# Altium footprint library OneFader.PcbLib: 11 footprints
Each footprint in its own frame and in the unit in brackets; x right, y up, seen from the top. Pads: shape width x height; smd on the part's side, far side on the other; paste and mask are expansions set on the pad; w line width, h text height; cw(c..) or ccw(c..) is an arc to the next point about the centre after c.
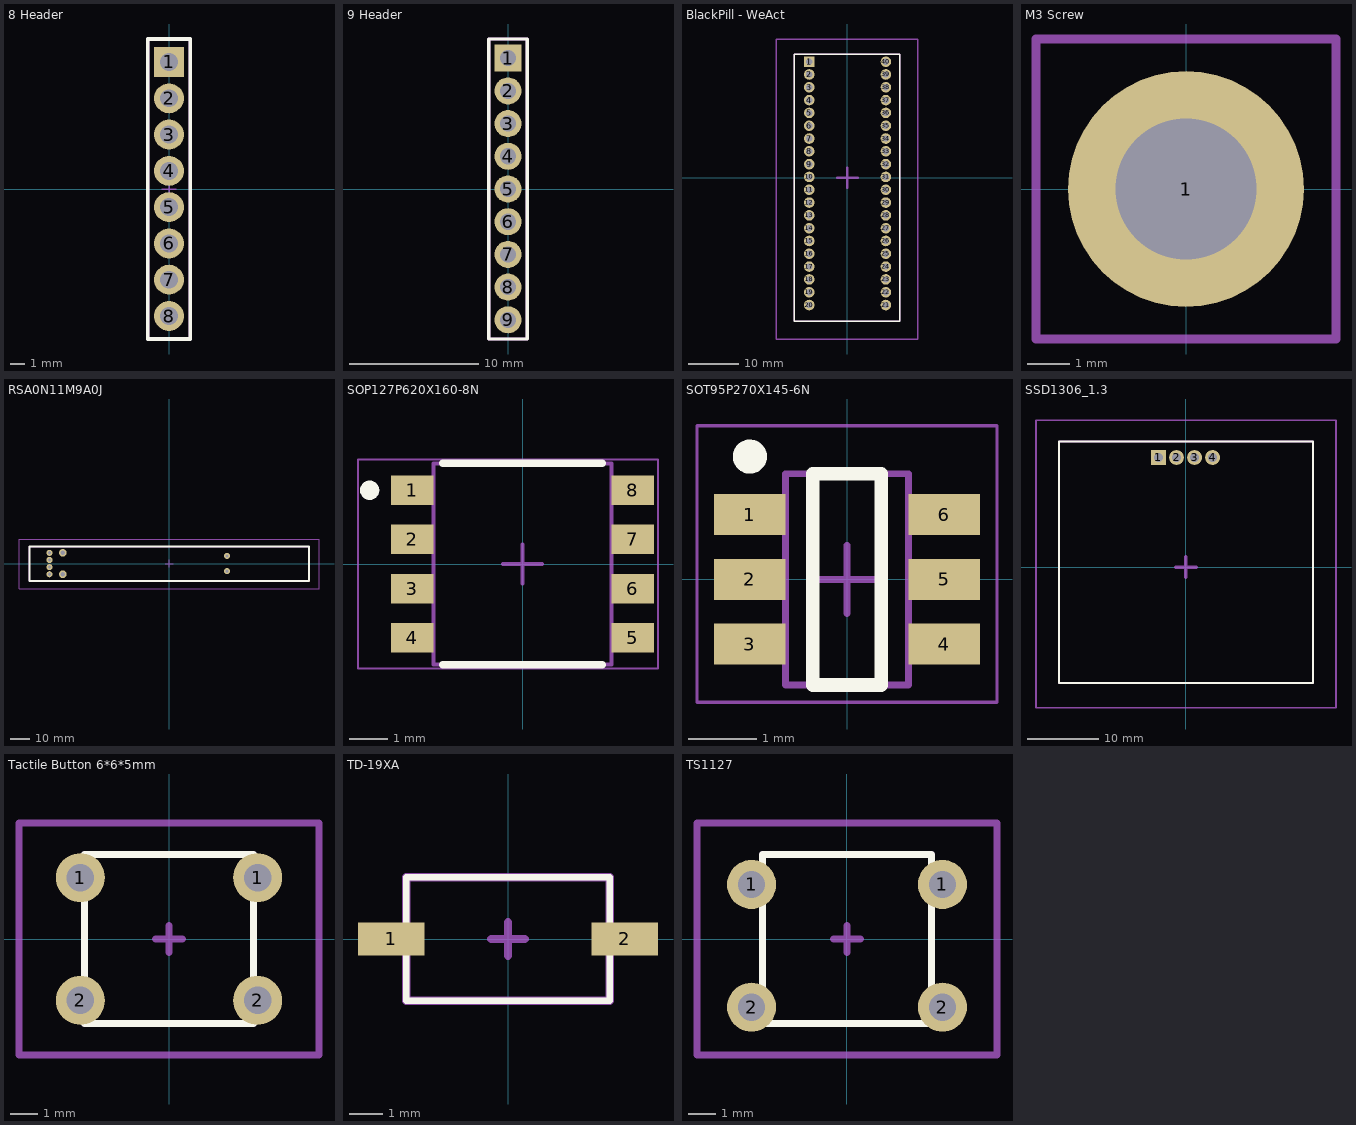
[diagram p0: the footprints below, top view; thin cyan lines are the x and y axes]

## 8 Header [mm]
pads (8):
  rect 2.1x2.1 hole 1.25: 1(0,8.89)
  round 2.1 hole 1.25: 2(0,6.35) 3(0,3.81) 4(0,1.27) 5(0,-1.27) 6(0,-3.81) 7(0,-6.35) 8(0,-8.89)
Top Overlay:
  lines w0.254: -1.5,-10.5 1.5,-10.5 1.5,10.5 -1.5,10.5 -1.5,-10.5
Designator Top:
  text ".Designator" at -0.383,-3.499 h0.7
Assembly Top:
  lines w0.254: -1.5,-10.5 1.5,-10.5 1.5,10.5 -1.5,10.5 -1.5,-10.5
Courtyard Top:
  lines w0.254: -1.5,-10.5 1.5,-10.5 1.5,10.5 -1.5,10.5 -1.5,-10.5
Component Center:
  lines w0.1: -0.5,0 0.5,0 ; 0,-0.5 0,0.5
3D body "User Library-Header Single Pin.step": height 6.54, standoff -2.46, extent -1.26,7.629 1.28,10.169
3D body "User Library-Header Single Pin.step": height 6.54, standoff -2.46, extent -1.26,5.089 1.28,7.629
3D body "User Library-Header Single Pin.step": height 6.54, standoff -2.46, extent -1.26,2.549 1.28,5.089
3D body "User Library-Header Single Pin.step": height 6.54, standoff -2.46, extent -1.26,0.009 1.28,2.549
3D body "User Library-Header Single Pin.step": height 6.54, standoff -2.46, extent -1.26,-2.531 1.28,0.009
3D body "User Library-Header Single Pin.step": height 6.54, standoff -2.46, extent -1.26,-5.071 1.28,-2.531
3D body "User Library-Header Single Pin.step": height 6.54, standoff -2.46, extent -1.26,-7.611 1.28,-5.071
3D body "User Library-Header Single Pin.step": height 6.54, standoff -2.46, extent -1.26,-10.151 1.28,-7.611

## 9 Header [mm]
pads (9):
  rect 2.1x2.1 hole 1.25: 1(0,10.16)
  round 2.1 hole 1.25: 2(0,7.62) 3(0,5.08) 4(0,2.54) 5(0,0) 6(0,-2.54) 7(0,-5.08) 8(0,-7.62) 9(0,-10.16)
Top Overlay:
  lines w0.254: -1.5,-11.65 1.5,-11.65 1.5,11.65 -1.5,11.65 -1.5,-11.65
Designator Top:
  text ".Designator" at -0.383,-2.229 h0.7
Assembly Top:
  lines w0.254: -1.5,-11.65 1.5,-11.65 1.5,11.65 -1.5,11.65 -1.5,-11.65
Courtyard Top:
  lines w0.254: -1.5,-11.65 1.5,-11.65 1.5,11.65 -1.5,11.65 -1.5,-11.65
Component Center:
  lines w0.1: -0.5,0 0.5,0 ; 0,-0.5 0,0.5
3D body "User Library-Header Single Pin.step": height 6.54, standoff -2.46, extent -1.26,-11.421 1.28,-8.881
3D body "User Library-Header Single Pin.step": height 6.54, standoff -2.46, extent -1.26,-8.881 1.28,-6.341
3D body "User Library-Header Single Pin.step": height 6.54, standoff -2.46, extent -1.26,-6.341 1.28,-3.801
3D body "User Library-Header Single Pin.step": height 6.54, standoff -2.46, extent -1.26,-3.801 1.28,-1.261
3D body "User Library-Header Single Pin.step": height 6.54, standoff -2.46, extent -1.26,-1.261 1.28,1.279
3D body "User Library-Header Single Pin.step": height 6.54, standoff -2.46, extent -1.26,1.279 1.28,3.819
3D body "User Library-Header Single Pin.step": height 6.54, standoff -2.46, extent -1.26,3.819 1.28,6.359
3D body "User Library-Header Single Pin.step": height 6.54, standoff -2.46, extent -1.26,6.359 1.28,8.899
3D body "User Library-Header Single Pin.step": height 6.54, standoff -2.46, extent -1.26,8.899 1.28,11.439

## BlackPill - WeAct [mm]
pads (40):
  rect 2.1x2.1 hole 1.25: 1(-7.581,23.01)
  round 2.1 hole 1.25: 2(-7.581,20.47) 3(-7.581,17.93) 4(-7.581,15.39) 5(-7.581,12.85) 6(-7.581,10.31) 7(-7.581,7.77) 8(-7.581,5.23) 9(-7.581,2.69) 10(-7.581,0.15) 11(-7.581,-2.39) 12(-7.581,-4.93) 13(-7.581,-7.47) 14(-7.581,-10.01) 15(-7.581,-12.55) 16(-7.581,-15.09) 17(-7.581,-17.63) 18(-7.581,-20.17) 19(-7.581,-22.71) 20(-7.581,-25.25) 21(7.634,-25.25) 22(7.634,-22.71) 23(7.634,-20.17) 24(7.634,-17.63) 25(7.634,-15.09) 26(7.634,-12.55) 27(7.634,-10.01) 28(7.634,-7.47) 29(7.634,-4.93) 30(7.634,-2.39) 31(7.634,0.15) 32(7.634,2.69) 33(7.634,5.23) 34(7.634,7.77) 35(7.634,10.31) 36(7.634,12.85) 37(7.634,15.39) 38(7.634,17.93) 39(7.634,20.47) 40(7.634,23.01)
Top Overlay:
  lines w0.254: -10.581,-28.49 -10.581,24.51 10.419,24.51 10.419,-28.49 -10.581,-28.49
Designator Top:
  text ".Designator" at 1.153,-19.985 h3.5
Assembly Top:
  lines w0.254: -10.581,-28.49 -10.581,24.51 10.419,24.51 10.419,-28.49 -10.581,-28.49
Courtyard Top:
  lines w0.254: -14.081,-31.99 -12.581,-31.99 13.919,-31.99 13.919,27.51 -14.081,27.51 -14.081,24.51 -14.081,-31.99
Component Center:
  lines w0.5: -1.998,0.011 2.002,0.011 ; 0.002,-1.989 0.002,2.011
3D body "blackpill v2.0.step": height 7.45, standoff 2.53, extent -10.448,-28.489 10.452,24.511

## M3 Screw [mm]
pads (1):
  round 5.5 hole 3.3: 1(0,0)
Designator Top:
  text ".Designator" at -2.499,-0.233 h0.5
Assembly Top:
  lines w0.2: -3.5,-3.5 3.5,-3.5 3.5,3.5 -3.5,3.5 -3.5,-3.5
Courtyard Top:
  lines w0.2: -3.5,-3.5 3.5,-3.5 3.5,3.5 -3.5,3.5 -3.5,-3.5
Component Center:
  lines w0.2: -0.25,0 0.25,0 ; 0,-0.25 0,0.25
3D body "User Library-Screw Metric Pan 3mm x 8mm.step": height 2.37, standoff -8, extent -2.8,-2.8 2.8,2.8

## RSA0N11M9A0J [mm]
pads (8):
  round 3.2 hole 1.7: 1(-62.869,5.622) 2(-62.869,-5.628) 3(-62.869,-1.878) A(30.331,3.997) B(30.331,-4.003) T(-62.869,1.872)
  round 4 hole 2.2: L1(-55.869,5.622) L2(-55.869,-5.628)
Top Overlay:
  lines w1: 73.381,8.622 73.381,-9.128 -73.369,-9.128 -73.369,8.872 73.381,8.872
Designator Top:
  text ".Designator" at -21.363,-1.362 h3.5
Assembly Top:
  lines w0.254: -73.369,-9.128 73.381,-9.128 73.381,8.872 -73.369,8.872 -73.369,-9.128
Courtyard Top:
  lines w0.254: -78.869,-13.128 78.631,-13.128 78.631,12.622 -78.869,12.622 -78.869,-13.128
Component Center:
  lines w0.5: -1.994,-0.003 2.006,-0.003 ; 0.006,-2.003 0.006,1.997
3D body "RSA0N11M9A0J.STEP": height 34.2, standoff -3.8, extent -73.307,-9.071 73.256,8.929

## SOP127P620X160-8N [mm] "SOP, 8-Leads, Body 5.2x4.6mm, Pitch 1.27mm"
height 1.6
pads (8):
  rect 1.1x0.76 smd: 1(-2.85,1.905) 2(-2.85,0.635) 3(-2.85,-0.635) 4(-2.85,-1.905) 5(2.85,-1.905) 6(2.85,-0.635) 7(2.85,0.635) 8(2.85,1.905)
Top Overlay:
  circle w0.25: c-3.95,1.905 r0.125
  lines w0.2: -2.053,-2.6 2.053,-2.6 ; -2.053,2.6 2.053,2.6
Designator Top:
  text ".Designator" at -2.499,0.067 h0.5
Assembly Top:
  lines w0.1: -2.3,-2.6 -2.3,2.6 2.3,2.6 2.3,-2.6 -2.3,-2.6
Courtyard Top:
  lines w0.05: -4.25,-2.7 3.5,-2.7 3.5,2.7 -4.25,2.7 -4.25,-2.7
Component Center:
  lines w0.1: -0.5,0 0.5,0 ; 0,-0.5 0,0.5
3D body "User Library-so8-3.step": height 1.7, standoff 0, extent -3.019,-2.459 2.981,2.441

## SOT95P270X145-6N [mm] "SOT23, 6-Leads, Body 2,90x2,70mm, Pitch 0,95mm, IPC Medium Density"
height 1.45
pads (6):
  rect 1.05x0.6 smd: 1(-1.425,0.95) 2(-1.425,0) 3(-1.425,-0.95) 4(1.425,-0.95) 5(1.425,0) 6(1.425,0.95)
Top Overlay:
  circle w0.25: c-1.425,1.8 r0.125
  lines w0.2: -0.5,-1.55 0.5,-1.55 0.5,1.55 -0.5,1.55 -0.5,-1.55
Assembly Top:
  lines w0.1: -0.9,-1.55 -0.9,1.55 0.9,1.55 0.9,-1.55 -0.9,-1.55
  text ".Designator" at -1,-0.133 h0.2
Courtyard Top:
  lines w0.05: -2.2,-1.8 -2.2,2.25 2.2,2.25 2.2,-1.8 -2.2,-1.8
Component Center:
  lines w0.1: -0.5,0 0.5,0 ; 0,-0.5 0,0.5
3D body "User Library-SOT-23-6.step": height 1.09, standoff 0, extent -1.212,-1.375 1.213,1.419

## SSD1306_1.3 [mm]
pads (4):
  rect 2.1x2.1 hole 1.25: 1(-3.853,15.436)
  round 2.1 hole 1.25: 2(-1.313,15.436) 3(1.227,15.436) 4(3.767,15.436)
Top Overlay:
  lines w0.254: -17.853,-16.314 -17.853,17.687 17.897,17.687 17.897,-16.314 -17.853,-16.314
Assembly Top:
  lines w0.254: -17.853,-16.314 17.897,-16.314 17.897,17.687 -17.853,17.687 -17.853,-16.314
Courtyard Top:
  lines w0.254: -21.103,-19.814 21.147,-19.814 21.147,20.686 -21.103,20.686 -21.103,-19.814
Component Center:
  lines w0.5: -1.436,0 1.436,0 ; 0,-1.436 0,1.436
3D body "Display_OLED_SSD1306_1.3inch.STEP": height 5.44, standoff -5.96, extent -17.85,-16.436 17.85,17.564

## Tactile Button 6*6*5mm [mm]
pads (4):
  round 1.8 hole 1: 1(-3.25,2.25) 1(3.25,2.25) 2(-3.25,-2.25) 2(3.25,-2.25)
Top Overlay:
  lines w0.254: -3.1,-3.1 3.1,-3.1 3.1,3.1 -3.1,3.1 -3.1,-3.1
Designator Top:
  text ".Designator" at -4.998,-0.167 h1
Assembly Top:
  lines w0.254: -3.1,-3.1 3.1,-3.1 3.1,3.1 -3.1,3.1 -3.1,-3.1
Courtyard Top:
  lines w0.254: -5.5,-4.25 5.5,-4.25 5.5,4.25 -5.5,4.25 -5.5,-4.25
Component Center:
  lines w0.254: -0.5,0 0.5,0 ; 0,-0.5 0,0.5
3D body "User Library-Tactile switch 6x6x5mm.step": height 5.01, standoff -3.51, extent -3.899,-3.029 3.844,3.001

## TD-19XA [mm] "TACT SWITCH 6.1*3.7*2.5MM SMD SPST-NO"
pads (2):
  rect 2x1 smd: 1(-3.5,0) 2(3.5,0)
Top Overlay:
  lines w0.2: -3.05,-1.85 3.05,-1.85 3.05,1.85 -3.05,1.85 -3.05,-1.85
Designator Top:
  text ".Designator" at -2.749,0.017 h0.5
Assembly Top:
  lines w0.254: -3.05,-1.85 3.05,-1.85 3.05,1.85 -3.05,1.85 -3.05,-1.85
Component Center:
  lines w0.254: -0.5,0 0.5,0 ; 0,-0.5 0,0.5
3D body "User Library-DTSMF-32.STEP": height 3.25, standoff -1.8, extent -5,-1.75 5,1.75

## TS1127 [mm] "TACT SWITCH 6.2*2.5 THROUGH HOLE SPST-NO RED BUTTON"
pads (4):
  round 1.8 hole 1: 1(-3.5,2) 1(3.5,2) 2(-3.5,-2.5) 2(3.5,-2.5)
Top Overlay:
  lines w0.254: -3.1,-3.1 3.1,-3.1 3.1,3.1 -3.1,3.1 -3.1,-3.1
Designator Top:
  text ".Designator" at -4.998,-0.167 h1
Assembly Top:
  lines w0.254: -3.1,-3.1 3.1,-3.1 3.1,3.1 -3.1,3.1 -3.1,-3.1
Courtyard Top:
  lines w0.254: -5.5,-4.25 5.5,-4.25 5.5,4.25 -5.5,4.25 -5.5,-4.25
Component Center:
  lines w0.254: -0.5,0 0.5,0 ; 0,-0.5 0,0.5
3D body "User Library-222CMVABR.STEP": height 2.5, standoff 0, extent -4,-3.2 4,3.2